# Altium schematic symbol library 691 307 300 0xx.SchLib: 23 symbols
Pins are listed as number, name and electrical type; pins without a type are passive.

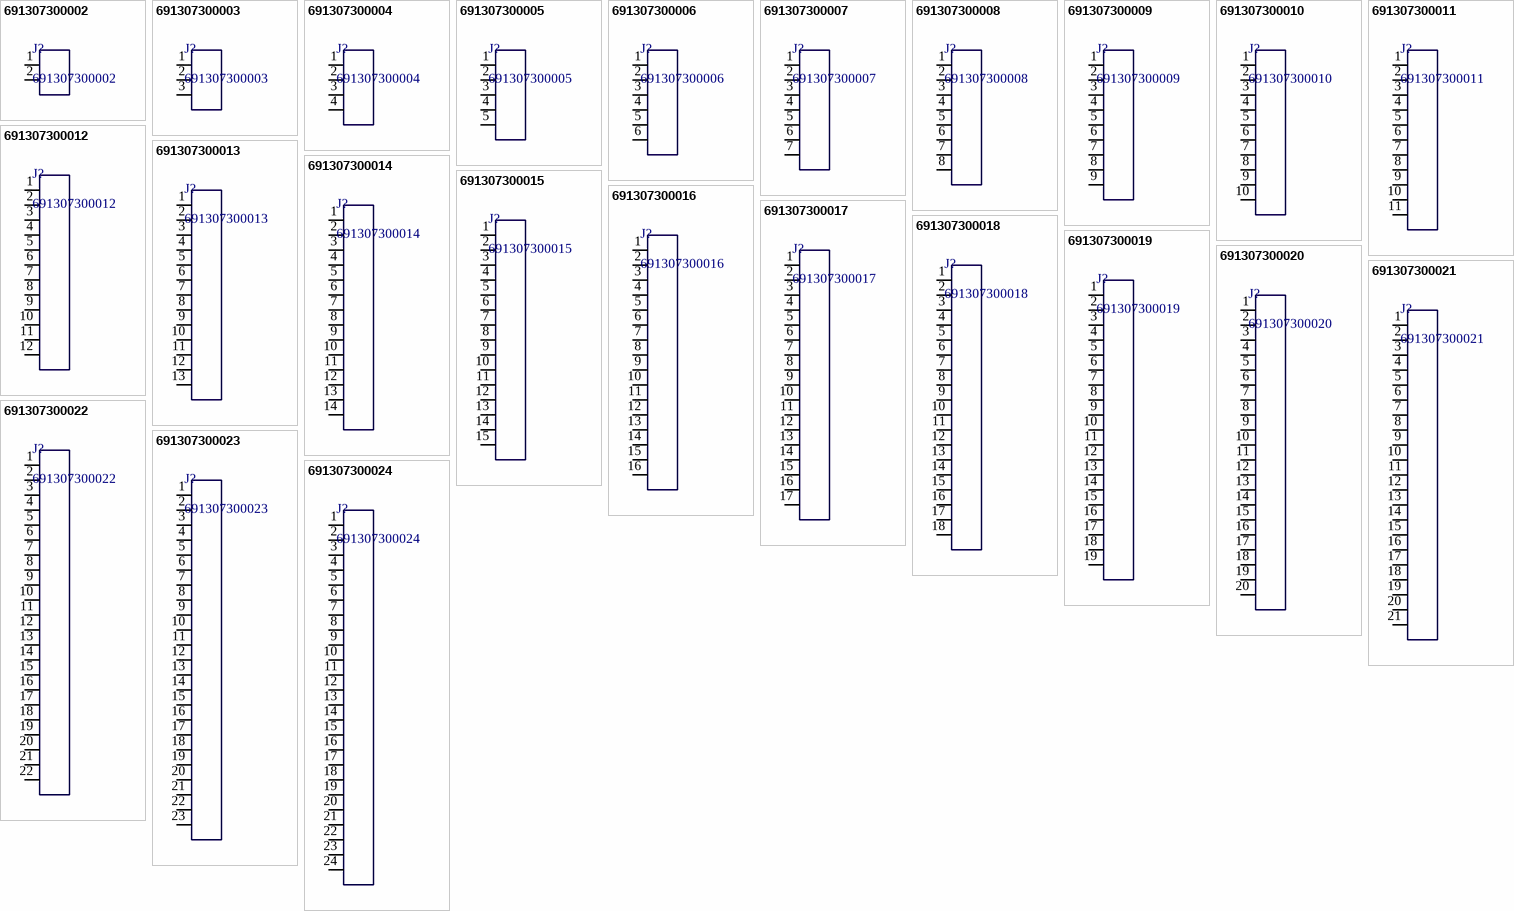
[diagram p0: symbols 691307300002 to 691307300024]

## 691307300002
designator J?
WR-TBL Terminal Blocks - Serie 3073; Manufacturer: Wurth Elektronik; ComponentLink1 Description: Manufacturer; ComponentLink2 Description: Datasheet; ComponentLink1URL: http://www.we-online.de; ComponentLink2URL: http://katalog.we-online.de/em/datasheet/6913073000xx.pdf; Created by: Baojun Chen; Created Date: 7.Sep.2015; partNo: 691307300002
footprint 691307300002 (Serie 3073 - 3.81 mm _ 2 pins)
pins: 1, 2

## 691307300003
designator J?
WR-TBL Terminal Blocks - Serie 3073; Manufacturer: Wurth Elektronik; ComponentLink1 Description: Manufacturer; ComponentLink2 Description: Datasheet; ComponentLink1URL: http://www.we-online.de; ComponentLink2URL: http://katalog.we-online.de/em/datasheet/6913073000xx.pdf; Created by: Baojun Chen; Created Date: 7.Sep.2015; partNo: 691307300003
footprint 691307300003 (Serie 3073 - 3.81 mm _ 3 pins)
pins: 1, 2, 3

## 691307300004
designator J?
WR-TBL Terminal Blocks - Serie 3073; Manufacturer: Wurth Elektronik; ComponentLink1 Description: Manufacturer; ComponentLink2 Description: Datasheet; ComponentLink1URL: http://www.we-online.de; ComponentLink2URL: http://katalog.we-online.de/em/datasheet/6913073000xx.pdf; Created by: Baojun Chen; Created Date: 7.Sep.2015; partNo: 691307300004
footprint 691307300004 (Serie 3073 - 3.81 mm _ 4 pins)
pins: 1, 2, 3, 4

## 691307300005
designator J?
WR-TBL Terminal Blocks - Serie 3073; Manufacturer: Wurth Elektronik; ComponentLink1 Description: Manufacturer; ComponentLink2 Description: Datasheet; ComponentLink1URL: http://www.we-online.de; ComponentLink2URL: http://katalog.we-online.de/em/datasheet/6913073000xx.pdf; Created by: Baojun Chen; Created Date: 7.Sep.2015; partNo: 691307300005
footprint 691307300005 (Serie 3073 - 3.81 mm _ 5 pins)
pins: 1, 2, 3, 4, 5

## 691307300006
designator J?
WR-TBL Terminal Blocks - Serie 3073; Manufacturer: Wurth Elektronik; ComponentLink1 Description: Manufacturer; ComponentLink2 Description: Datasheet; ComponentLink1URL: http://www.we-online.de; ComponentLink2URL: http://katalog.we-online.de/em/datasheet/6913073000xx.pdf; Created by: Baojun Chen; Created Date: 7.Sep.2015; partNo: 691307300006
footprint 691307300006 (Serie 3073 - 3.81 mm _ 6 pins)
pins: 1, 2, 3, 4, 5, 6

## 691307300007
designator J?
WR-TBL Terminal Blocks - Serie 3073; Manufacturer: Wurth Elektronik; ComponentLink1 Description: Manufacturer; ComponentLink2 Description: Datasheet; ComponentLink1URL: http://www.we-online.de; ComponentLink2URL: http://katalog.we-online.de/em/datasheet/6913073000xx.pdf; Created by: Baojun Chen; Created Date: 7.Sep.2015; partNo: 691307300007
footprint 691307300007 (Serie 3073 - 3.81 mm _ 7 pins)
pins: 1, 2, 3, 4, 5, 6, 7

## 691307300008
designator J?
WR-TBL Terminal Blocks - Serie 3073; Manufacturer: Wurth Elektronik; ComponentLink1 Description: Manufacturer; ComponentLink2 Description: Datasheet; ComponentLink1URL: http://www.we-online.de; ComponentLink2URL: http://katalog.we-online.de/em/datasheet/6913073000xx.pdf; Created by: Baojun Chen; Created Date: 7.Sep.2015; partNo: 691307300008
footprint 691307300008 (Serie 3073 - 3.81 mm _ 8 pins)
pins: 1, 2, 3, 4, 5, 6, 7, 8

## 691307300009
designator J?
WR-TBL Terminal Blocks - Serie 3073; Manufacturer: Wurth Elektronik; ComponentLink1 Description: Manufacturer; ComponentLink2 Description: Datasheet; ComponentLink1URL: http://www.we-online.de; ComponentLink2URL: http://katalog.we-online.de/em/datasheet/6913073000xx.pdf; Created by: Baojun Chen; Created Date: 7.Sep.2015; partNo: 691307300009
footprint 691307300009 (Serie 3073 - 3.81 mm _ 9 pins)
pins: 1, 2, 3, 4, 5, 6, 7, 8, 9

## 691307300010
designator J?
WR-TBL Terminal Blocks - Serie 3073; Manufacturer: Wurth Elektronik; ComponentLink1 Description: Manufacturer; ComponentLink2 Description: Datasheet; ComponentLink1URL: http://www.we-online.de; ComponentLink2URL: http://katalog.we-online.de/em/datasheet/6913073000xx.pdf; Created by: Baojun Chen; Created Date: 7.Sep.2015; partNo: 691307300010
footprint 691307300010 (Serie 3073 - 3.81 mm _ 10 pins)
pins: 1, 2, 3, 4, 5, 6, 7, 8, 9, 10

## 691307300011
designator J?
WR-TBL Terminal Blocks - Serie 3073; Manufacturer: Wurth Elektronik; ComponentLink1 Description: Manufacturer; ComponentLink2 Description: Datasheet; ComponentLink1URL: http://www.we-online.de; ComponentLink2URL: http://katalog.we-online.de/em/datasheet/6913073000xx.pdf; Created by: Baojun Chen; Created Date: 7.Sep.2015; partNo: 691307300011
footprint 691307300011 (Serie 3073 - 3.81 mm _ 11 pins)
pins: 1, 2, 3, 4, 5, 6, 7, 8, 9, 10, 11

## 691307300012
designator J?
WR-TBL Terminal Blocks - Serie 3073; Manufacturer: Wurth Elektronik; ComponentLink1 Description: Manufacturer; ComponentLink2 Description: Datasheet; ComponentLink1URL: http://www.we-online.de; ComponentLink2URL: http://katalog.we-online.de/em/datasheet/6913073000xx.pdf; Created by: Baojun Chen; Created Date: 7.Sep.2015; partNo: 691307300012
footprint 691307300012 (Serie 3073 - 3.81 mm _ 12 pins)
pins: 1, 2, 3, 4, 5, 6, 7, 8, 9, 10, 11, 12

## 691307300013
designator J?
WR-TBL Terminal Blocks - Serie 3073; Manufacturer: Wurth Elektronik; ComponentLink1 Description: Manufacturer; ComponentLink2 Description: Datasheet; ComponentLink1URL: http://www.we-online.de; ComponentLink2URL: http://katalog.we-online.de/em/datasheet/6913073000xx.pdf; Created by: Baojun Chen; Created Date: 7.Sep.2015; partNo: 691307300013
footprint 691307300013 (Serie 3073 - 3.81 mm _ 13 pins)
pins: 1, 2, 3, 4, 5, 6, 7, 8, 9, 10, 11, 12, 13

## 691307300014
designator J?
WR-TBL Terminal Blocks - Serie 3073; Manufacturer: Wurth Elektronik; ComponentLink1 Description: Manufacturer; ComponentLink2 Description: Datasheet; ComponentLink1URL: http://www.we-online.de; ComponentLink2URL: http://katalog.we-online.de/em/datasheet/6913073000xx.pdf; Created by: Baojun Chen; Created Date: 7.Sep.2015; partNo: 691307300014
footprint 691307300014 (Serie 3073 - 3.81 mm _ 14 pins)
pins: 1, 2, 3, 4, 5, 6, 7, 8, 9, 10, 11, 12, 13, 14

## 691307300015
designator J?
WR-TBL Terminal Blocks - Serie 3073; Manufacturer: Wurth Elektronik; ComponentLink1 Description: Manufacturer; ComponentLink2 Description: Datasheet; ComponentLink1URL: http://www.we-online.de; ComponentLink2URL: http://katalog.we-online.de/em/datasheet/6913073000xx.pdf; Created by: Baojun Chen; Created Date: 7.Sep.2015; partNo: 691307300015
footprint 691307300015 (Serie 3073 - 3.81 mm _ 15 pins)
pins: 1, 2, 3, 4, 5, 6, 7, 8, 9, 10, 11, 12, 13, 14, 15

## 691307300016
designator J?
WR-TBL Terminal Blocks - Serie 3073; Manufacturer: Wurth Elektronik; ComponentLink1 Description: Manufacturer; ComponentLink2 Description: Datasheet; ComponentLink1URL: http://www.we-online.de; ComponentLink2URL: http://katalog.we-online.de/em/datasheet/6913073000xx.pdf; Created by: Baojun Chen; Created Date: 7.Sep.2015; partNo: 691307300016
footprint 691307300016 (Serie 3073 - 3.81 mm _ 16 pins)
pins: 1, 2, 3, 4, 5, 6, 7, 8, 9, 10, 11, 12, 13, 14, 15, 16

## 691307300017
designator J?
WR-TBL Terminal Blocks - Serie 3073; Manufacturer: Wurth Elektronik; ComponentLink1 Description: Manufacturer; ComponentLink2 Description: Datasheet; ComponentLink1URL: http://www.we-online.de; ComponentLink2URL: http://katalog.we-online.de/em/datasheet/6913073000xx.pdf; Created by: Baojun Chen; Created Date: 7.Sep.2015; partNo: 691307300017
footprint 691307300017 (Serie 3073 - 3.81 mm _ 17 pins)
pins: 1, 2, 3, 4, 5, 6, 7, 8, 9, 10, 11, 12, 13, 14, 15, 16, 17

## 691307300018
designator J?
WR-TBL Terminal Blocks - Serie 3073; Manufacturer: Wurth Elektronik; ComponentLink1 Description: Manufacturer; ComponentLink2 Description: Datasheet; ComponentLink1URL: http://www.we-online.de; ComponentLink2URL: http://katalog.we-online.de/em/datasheet/6913073000xx.pdf; Created by: Baojun Chen; Created Date: 7.Sep.2015; partNo: 691307300018
footprint 691307300018 (Serie 3073 - 3.81 mm _ 18 pins)
pins: 1, 2, 3, 4, 5, 6, 7, 8, 9, 10, 11, 12, 13, 14, 15, 16, 17, 18

## 691307300019
designator J?
WR-TBL Terminal Blocks - Serie 3073; Manufacturer: Wurth Elektronik; ComponentLink1 Description: Manufacturer; ComponentLink2 Description: Datasheet; ComponentLink1URL: http://www.we-online.de; ComponentLink2URL: http://katalog.we-online.de/em/datasheet/6913073000xx.pdf; Created by: Baojun Chen; Created Date: 7.Sep.2015; partNo: 691307300019
footprint 691307300019 (Serie 3073 - 3.81 mm _ 19 pins)
pins: 1, 2, 3, 4, 5, 6, 7, 8, 9, 10, 11, 12, 13, 14, 15, 16, 17, 18, 19

## 691307300020
designator J?
WR-TBL Terminal Blocks - Serie 3073; Manufacturer: Wurth Elektronik; ComponentLink1 Description: Manufacturer; ComponentLink2 Description: Datasheet; ComponentLink1URL: http://www.we-online.de; ComponentLink2URL: http://katalog.we-online.de/em/datasheet/6913073000xx.pdf; Created by: Baojun Chen; Created Date: 7.Sep.2015; partNo: 691307300020
footprint 691307300020 (Serie 3073 - 3.81 mm _ 20 pins)
pins: 1, 2, 3, 4, 5, 6, 7, 8, 9, 10, 11, 12, 13, 14, 15, 16, 17, 18, 19, 20

## 691307300021
designator J?
WR-TBL Terminal Blocks - Serie 3073; Manufacturer: Wurth Elektronik; ComponentLink1 Description: Manufacturer; ComponentLink2 Description: Datasheet; ComponentLink1URL: http://www.we-online.de; ComponentLink2URL: http://katalog.we-online.de/em/datasheet/6913073000xx.pdf; Created by: Baojun Chen; Created Date: 7.Sep.2015; partNo: 691307300021
footprint 691307300021 (Serie 3073 - 3.81 mm _ 21 pins)
pins: 1, 2, 3, 4, 5, 6, 7, 8, 9, 10, 11, 12, 13, 14, 15, 16, 17, 18, 19, 20, 21

## 691307300022
designator J?
WR-TBL Terminal Blocks - Serie 3073; Manufacturer: Wurth Elektronik; ComponentLink1 Description: Manufacturer; ComponentLink2 Description: Datasheet; ComponentLink1URL: http://www.we-online.de; ComponentLink2URL: http://katalog.we-online.de/em/datasheet/6913073000xx.pdf; Created by: Baojun Chen; Created Date: 7.Sep.2015; partNo: 691307300022
footprint 691307300022 (Serie 3073 - 3.81 mm _ 22 pins)
pins: 1, 2, 3, 4, 5, 6, 7, 8, 9, 10, 11, 12, 13, 14, 15, 16, 17, 18, 19, 20, 21, 22

## 691307300023
designator J?
WR-TBL Terminal Blocks - Serie 3073; Manufacturer: Wurth Elektronik; ComponentLink1 Description: Manufacturer; ComponentLink2 Description: Datasheet; ComponentLink1URL: http://www.we-online.de; ComponentLink2URL: http://katalog.we-online.de/em/datasheet/6913073000xx.pdf; Created by: Baojun Chen; Created Date: 7.Sep.2015; partNo: 691307300023
footprint 691307300023 (Serie 3073 - 3.81 mm _ 23 pins)
pins: 1, 2, 3, 4, 5, 6, 7, 8, 9, 10, 11, 12, 13, 14, 15, 16, 17, 18, 19, 20, 21, 22, 23

## 691307300024
designator J?
WR-TBL Terminal Blocks - Serie 3073; Manufacturer: Wurth Elektronik; ComponentLink1 Description: Manufacturer; ComponentLink2 Description: Datasheet; ComponentLink1URL: http://www.we-online.de; ComponentLink2URL: http://katalog.we-online.de/em/datasheet/6913073000xx.pdf; Created by: Baojun Chen; Created Date: 7.Sep.2015; partNo: 691307300024
footprint 691307300024 (Serie 3073 - 3.81 mm _ 24 pins)
pins: 1, 2, 3, 4, 5, 6, 7, 8, 9, 10, 11, 12, 13, 14, 15, 16, 17, 18, 19, 20, 21, 22, 23, 24